# Altium schematic symbol library ADS7052IRUGR.SchLib: 2 symbols
Pins are listed as number, name and electrical type; pins without a type are passive.

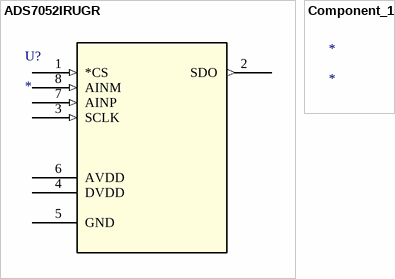
[diagram p0: symbols ADS7052IRUGR to Component_1]

## ADS7052IRUGR
designator U?
No Description Available; Mfr_Name: Texas Instruments; RefDes: RefDes; Type: Type
footprint RUG8_TEX
pins: 1 *CS (in), 2 SDO (out), 3 SCLK (in), 4 DVDD (power), 5 GND (power), 6 AVDD (power), 7 AINP (in), 8 AINM (in)

## Component_1
designator *